# EAGLE library part 74*109 (library 74ttl-din)
Dual J-K positive edge triggered FLIP FLOP, preset and clear
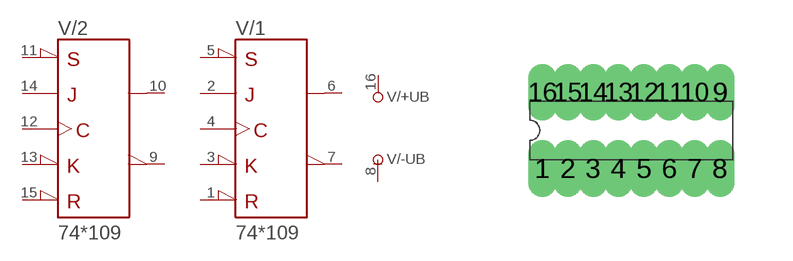
[diagram p29: symbol with the pads of DIL16; footprint DIL16]

Designator prefix V; gates /+UB=+UB /-UB=-UB /1=109 /2=109

## 74109N  [DIL16]
1  /1:!CLR  in
2  /1:J  in
3  /1:!K  in
4  /1:CLK  in
5  /1:!PRE  in
6  /1:Q  out
7  /1:!Q  out
8  /-UB:-UB  pwr
9  /2:!Q  out
10  /2:Q  out
11  /2:!PRE  in
12  /2:CLK  in
13  /2:!K  in
14  /2:J  in
15  /2:!CLR  in
16  /+UB:+UB  pwr

## Footprint DIL16 (pad centres in mm)
Dual In Line Package
drill 0.203 long: 1 -2.223,-0.953; 2 -1.587,-0.953; 3 -0.953,-0.953; 4 -0.318,-0.953; 5 0.318,-0.953; 6 0.953,-0.953; 7 1.587,-0.953; 8 2.223,-0.953; 9 2.223,0.953; 10 1.587,0.953; 11 0.953,0.953; 12 0.318,0.953; 13 -0.318,0.953; 14 -0.953,0.953; 15 -1.587,0.953; 16 -2.223,0.953